# Altium footprint library SensorAccelMagnet.PcbLib: 2 footprints
Each footprint in its own frame and in the unit in brackets; x right, y up, seen from the top. Pads: shape width x height; smd on the part's side, far side on the other; paste and mask are expansions set on the pad; w line width, h text height; cw(c..) or ccw(c..) is an arc to the next point about the centre after c.
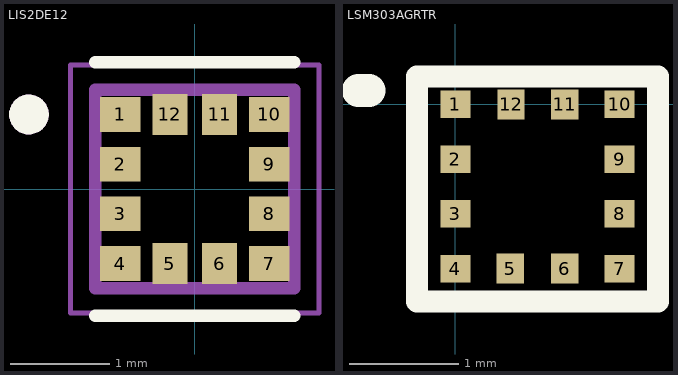
[diagram p0: the footprints below, top view; thin cyan lines are the x and y axes]

## LIS2DE12 [mm]
pads (12):
  rect 0.41x0.35 smd: 1(-0.75,0.75) 2(-0.75,0.25) 3(-0.75,-0.25) 4(-0.75,-0.75) 7(0.75,-0.75) 8(0.75,-0.25) 9(0.75,0.25) 10(0.75,0.75)
  rect 0.35x0.41 smd: 5(-0.25,-0.75) 6(0.25,-0.75) 11(0.25,0.75) 12(-0.25,0.75)
Top Overlay:
  circle w0.2: c-1.669,0.75 r0.1
  lines w0.127: -1,-1.275 1,-1.275 ; -1,1.275 1,1.275
Mechanical 13:
  circle w0.2: c-1.669,0.75 r0.1
  lines w0.127: -1,-1 -1,1 1,1 1,-1 -1,-1
Mechanical 15:
  lines w0.05: -1.25,-1.25 -1.25,1.25 1.25,1.25 1.25,-1.25 -1.25,-1.25
3D body "step_temp.STEP": height 1, standoff 0, extent -1,-1 1,1

## LSM303AGRTR [mm]
pads (12):
  rect 0.275x0.25 smd: 1(0,0) 2(0,-0.5) 3(0,-1) 4(0,-1.5) 7(1.5,-1.5) 8(1.5,-1) 9(1.5,-0.5) 10(1.5,0)
  rect 0.25x0.275 smd: 5(0.5,-1.5) 6(1,-1.5) 11(1,0) 12(0.508,0)
Top Overlay:
  lines w0.2: 1.85,0.228 1.85,-1.8 -0.35,-1.8 -0.35,0.254 1.85,0.254
  lines w0.3: -0.889,0.127 -0.789,0.127
3D body "SON_03AGRTR_STM.step": height 0.99, standoff 0, extent -0.241,-1.765 1.765,0.241